# EAGLE library part 8-WAY (library pimoroni-headers)
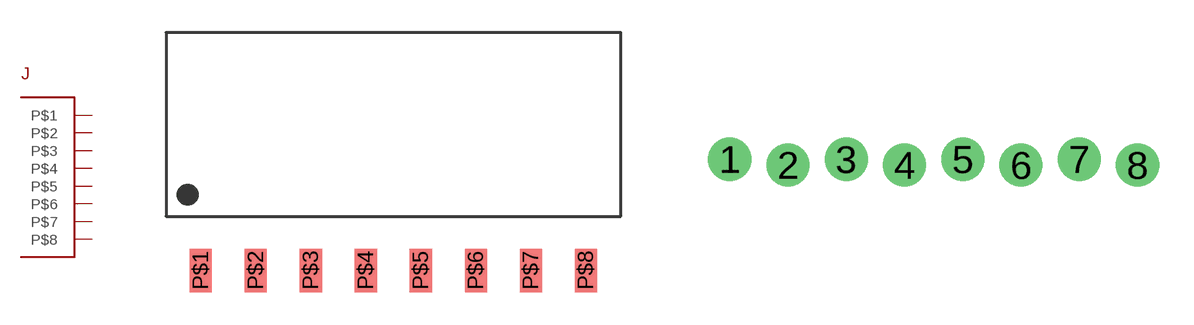
[diagram p5: symbol with the pads of 1X8-SMT-RIGHT-ANGLE; footprints 1X8-SMT-RIGHT-ANGLE, 1X8-LOCK-NOSILK]

Designator prefix J

## 8-WAYSMT-RA  [1X8-SMT-RIGHT-ANGLE]
P$1  P$1
P$2  P$2
P$3  P$3
P$4  P$4
P$5  P$5
P$6  P$6
P$7  P$7
P$8  P$8

## 8-WAYPTH-LOCK-NOSILK  [1X8-LOCK-NOSILK]
1  P$1
2  P$2
3  P$3
4  P$4
5  P$5
6  P$6
7  P$7
8  P$8

## 8-WAYPTH-NOSILK  [2X4-NOSILK]
Pads as for 1X8-LOCK-NOSILK

## 8-WAYPTH  [2X4]
Pads as for 1X8-LOCK-NOSILK

## 8-WAYSCREWTERMINAL  [1X8-3.5MM-SCREWTERMINAL]
Pads as for 1X8-LOCK-NOSILK

## 8-WAY  [1X8]
Pads as for 1X8-LOCK-NOSILK

## 8-WAY2MM  [1X8_2MM]
Pads as for 1X8-LOCK-NOSILK

## Footprint 1X8-SMT-RIGHT-ANGLE (pad centres in mm)
smd 1.02 x 2: P$1 -8.89,0; P$2 -6.35,0; P$3 -3.81,0; P$4 -1.27,0; P$5 1.27,0; P$6 3.81,0; P$7 6.35,0; P$8 8.89,0

## Footprint 1X8-LOCK-NOSILK (pad centres in mm)
drill 1.016 pad 1.88: 1 -8.89,0.127; 2 -6.35,-0.127; 3 -3.81,0.127; 4 -1.27,-0.127; 5 1.27,0.127; 6 3.81,-0.127; 7 6.35,0.127; 8 8.89,-0.127

## Footprint 2X4-NOSILK (pad centres in mm)
drill 1.016 pad 1.676 octagon: 1 -3.81,-1.27; 2 -3.81,1.27; 3 -1.27,-1.27; 4 -1.27,1.27; 5 1.27,-1.27; 6 1.27,1.27; 7 3.81,-1.27; 8 3.81,1.27

## Footprint 2X4 (pad centres in mm)
drill 1.016 pad 1.676: 1 -3.81,-1.27; 2 -3.81,1.27; 3 -1.27,-1.27; 4 -1.27,1.27; 5 1.27,-1.27; 6 1.27,1.27; 7 3.81,-1.27; 8 3.81,1.27

## Footprint 1X8-3.5MM-SCREWTERMINAL (pad centres in mm)
drill 1.3 pad 2.184: 1 -12.25,0.25; 2 -8.75,-0.25; 3 -5.25,0.25; 4 -1.75,-0.25; 5 1.75,0.25; 6 5.25,-0.25; 7 8.75,0.25; 8 12.25,-0.25

## Footprint 1X8 (pad centres in mm)
drill 1.016 pad 1.88: 1 -8.89,0; 2 -6.35,0; 3 -3.81,0; 4 -1.27,0; 5 1.27,0; 6 3.81,0; 7 6.35,0; 8 8.89,0

## Footprint 1X8_2MM (pad centres in mm)
drill 0.8: 1 -7,0; 2 -5,0; 3 -3,0; 4 -1,0; 5 1,0; 6 3,0; 7 5,0; 8 7,0